# Altium schematic symbol library MIC5219.SchLib: 1 symbol
Pins are listed as number, name and electrical type; pins without a type are passive.

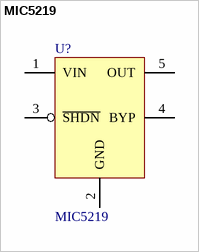
[diagram p0: symbol MIC5219]

## MIC5219
designator U?
Regulator; Text Field 2: 3.3v LDO, 500ma; Text Field 3: SOT-23-5; Text Field 4: Micrel; Text Field 5: MIC5219-3.3BM5; Text Field 6: CMW#; Text Field 1: Regulator
footprint SOT-23-5
pins: 1 VIN, 2 GND, 3 ~{SHDN}, 4 BYP, 5 OUT
2 alternate drawings of the same symbol